# EAGLE library part 750343004 (library WE-OLTI)
WE-OLTI Offline Flyback Transformers Characteristics Nominal input voltage: 85–265 VAC (120–375 VDC) Small size Low leakage inductance Multiple-output options Operating temperature: −40 °C to +125 °C Isolation Voltage: 2 kVAC to 5 kVAC Options for fixed frequency or quasi-resonant mode operation Most products meet reinforced insulation Applications Industrial controls USB chargers Utility metering devices Process controls Factory automation Security systems Garage door opener auxiliary supplies Home appliances Especially designed for several ICs from Texas Instruments <https://www.we-online.com/components/media/o814034v209%20UtOLTI%20Group%20CGI.jpg> Details see: www.we-online.com/en/components/products/WE-OLTI <www.we-online.com/catalog/WE-OLTI/?utm_source=eagle_model&utm_medium=description_link&utm_campaign=eisos_eagle> Created by Ella Wu 2025-02-06 2025 (C) Wurth Elektronik
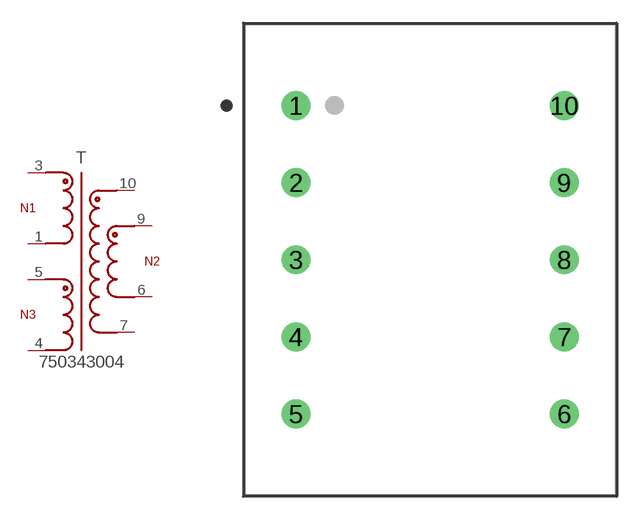
[diagram p23: symbol with the pads of WE-OLTI_ER28/14_L30.5W24H33; footprint WE-OLTI_ER28/14_L30.5W24H33]

Designator prefix T

## 750343004 (DATASHEET-URL: https://www.we-online.com/redexpert/spec/750343004?ae; FSWITCH: 65kHz; HEIGHT: 33mm; IOUT1: 3850mA; ISAT: 4.7A; L: 160uH; LENGTH: 30.5mm; MOUNT: THT; N: 4:1:0.78; PART-NUMBER: 750343004; SIZE: ER28/14; VALUE: 160uH; VAUX: 18V; VIN: 106 - 286 V (AC); VOUT1: 24V; VT: 3750V(AC); WIDTH: 24mm)  [WE-OLTI_ER28/14_L30.5W24H33]
1  1  pas
3  3  pas
4  4  pas
5  5  pas
6  6  pas
7  7  pas
9  9  pas
10  10  pas

## Footprint WE-OLTI_ER28/14_L30.5W24H33 (pad centres in mm)
WE-OLTI Offline Flyback Transformers Size: ER28/14,THT,10pins LXWXH=30.5X24X33mm Bobbin: 070-5576
drill 1.25: 1 -8.7,10; 2 -8.7,5; 3 -8.7,0; 4 -8.7,-5; 5 -8.7,-10; 6 8.7,-10; 7 8.7,-5; 8 8.7,0; 9 8.7,5; 10 8.7,10